# Altium footprint library 3M SMD.PcbLib: 4 footprints
Each footprint in its own frame and in the unit in brackets; x right, y up, seen from the top. Pads: shape width x height; smd on the part's side, far side on the other; paste and mask are expansions set on the pad; w line width, h text height; cw(c..) or ccw(c..) is an arc to the next point about the centre after c.
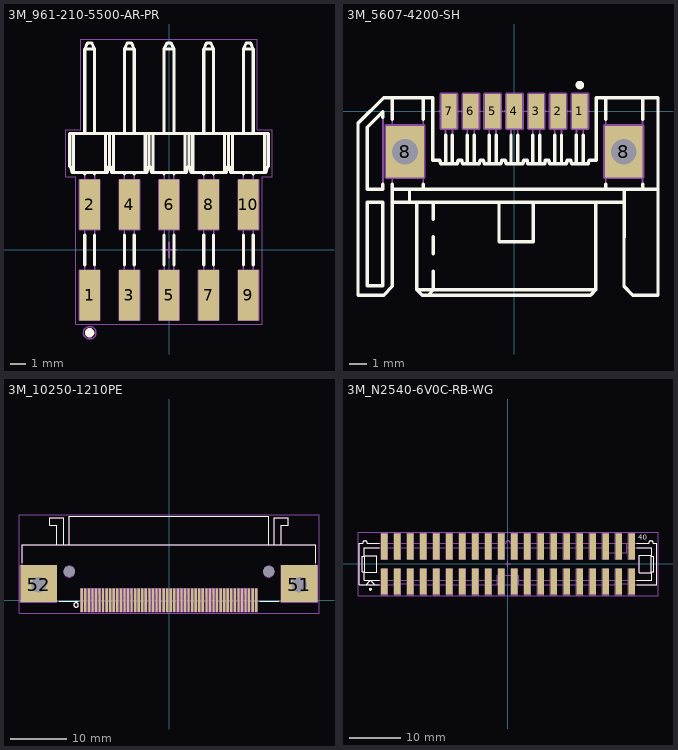
[diagram p0: the footprints below, top view; thin cyan lines are the x and y axes]

## 3M_961-210-5500-AR-PR [mm] "10 Contacts - 2.54 mm x 2.54 mm Right Angle, Surface Mount Pin Strip Header (Mating Pin Length 5.8mm)"
height 5
pads (10):
  rect 1.3x3.2 smd: 1(-5.08,-2.9) 2(-5.08,2.9) 3(-2.54,-2.9) 4(-2.54,2.9) 5(0,-2.9) 6(0,2.9) 7(2.54,-2.9) 8(2.54,2.9) 9(5.08,-2.9) 10(5.08,2.9)
Top Overlay:
  circle w0.3: c-5.08,-5.3 r0.15
  lines w0.2: -6.1,4.95 -6.1,7.45 ; -5.395,-0.95 -5.395,0.95 ; -5.395,4.85 -5.395,4.95 ; -5.395,7.45 -5.395,12.85 ; -4.765,-0.95 -4.765,0.95 ; -4.765,4.85 -4.765,4.95 ; -4.765,7.45 -4.765,12.85 ; -4.06,4.95 -4.06,7.45 ; -3.81,5.35 -3.81,7.45 ; -3.56,4.95 -3.56,7.45 ; -2.855,-0.95 -2.855,0.95 ; -2.855,4.85 -2.855,4.95 ; -2.855,7.45 -2.855,12.85 ; -2.225,-0.95 -2.225,0.95 ; -2.225,4.85 -2.225,4.95 ; -2.225,7.45 -2.225,12.85 ; -1.52,4.95 -1.52,7.45 ; -1.27,5.35 -1.27,7.45 ; -1.02,4.95 -1.02,7.45 ; -0.315,-0.95 -0.315,0.95 ; -0.315,4.85 -0.315,4.95 ; -0.315,7.45 -0.315,12.85 ; 0.315,-0.95 0.315,0.95 ; 0.315,4.85 0.315,4.95 ; 0.315,7.45 0.315,12.85 ; 1.02,4.95 1.02,7.45 ; 1.27,5.35 1.27,7.45 ; 1.52,4.95 1.52,7.45 ; 2.225,-0.95 2.225,0.95 ; 2.225,4.85 2.225,4.95 ; 2.225,7.45 2.225,12.85 ; 2.855,-0.95 2.855,0.95 ; 2.855,4.85 2.855,4.95 ; 2.855,7.45 2.855,12.85 ; 3.56,4.95 3.56,7.45 ; 3.81,5.35 3.81,7.45 ; 4.06,4.95 4.06,7.45 ; 4.765,-0.95 4.765,0.95 ; 4.765,4.85 4.765,4.95 ; 4.765,7.45 4.765,12.85 ; 5.395,-0.95 5.395,0.95 ; 5.395,4.85 5.395,4.95 ; 5.395,7.45 5.395,12.85 ; 6.1,4.95 6.1,7.45 ; -5.395,12.85 -5.215,13.25 -4.945,13.25 -4.765,12.85 ; -5.395,12.85 -4.765,12.85 ; -2.855,12.85 -2.675,13.25 -2.405,13.25 -2.225,12.85 ; -2.855,12.85 -2.225,12.85 ; -0.315,12.85 -0.135,13.25 0.135,13.25 0.315,12.85 ; -0.315,12.85 0.315,12.85 ; 2.225,12.85 2.405,13.25 2.675,13.25 2.855,12.85 ; 2.225,12.85 2.855,12.85 ; 4.765,12.85 4.945,13.25 5.215,13.25 5.395,12.85 ; 4.765,12.85 5.395,12.85 ; -6.35,5.35 -6.296,5.35 -6.207,4.95 -3.953,4.95 -3.864,5.35 -3.756,5.35 -3.667,4.95 -1.413,4.95 -1.324,5.35 -1.216,5.35 -1.127,4.95 1.127,4.95 1.216,5.35 1.324,5.35 1.413,4.95 3.667,4.95 3.756,5.35 3.864,5.35 3.953,4.95 6.207,4.95 6.296,5.35 6.35,5.35 6.35,7.45 -6.35,7.45 -6.35,5.35
Mechanical 8:
  lines w0.1: -5.58,-2.9 -5.08,-2.9 ; -5.58,2.9 -5.08,2.9 ; -5.08,-3.4 -5.08,-2.9 ; -5.08,-2.4 -5.08,-2.9 ; -5.08,2.4 -5.08,2.9 ; -5.08,3.4 -5.08,2.9 ; -4.58,-2.9 -5.08,-2.9 ; -4.58,2.9 -5.08,2.9 ; -3.04,-2.9 -2.54,-2.9 ; -3.04,2.9 -2.54,2.9 ; -2.54,-3.4 -2.54,-2.9 ; -2.54,-2.4 -2.54,-2.9 ; -2.54,2.4 -2.54,2.9 ; -2.54,3.4 -2.54,2.9 ; -2.04,-2.9 -2.54,-2.9 ; -2.04,2.9 -2.54,2.9 ; -0.5,-2.9 0,-2.9 ; -0.5,0 0,0 ; -0.5,2.9 0,2.9 ; 0,-3.4 0,-2.9 ; 0,-2.4 0,-2.9 ; 0,-0.5 0,0 ; 0,0.5 0,0 ; 0,2.4 0,2.9 ; 0,3.4 0,2.9 ; 0.5,-2.9 0,-2.9 ; 0.5,0 0,0 ; 0.5,2.9 0,2.9 ; 2.04,-2.9 2.54,-2.9 ; 2.04,2.9 2.54,2.9 ; 2.54,-3.4 2.54,-2.9 ; 2.54,-2.4 2.54,-2.9 ; 2.54,2.4 2.54,2.9 ; 2.54,3.4 2.54,2.9 ; 3.04,-2.9 2.54,-2.9 ; 3.04,2.9 2.54,2.9 ; 4.58,-2.9 5.08,-2.9 ; 4.58,2.9 5.08,2.9 ; 5.08,-3.4 5.08,-2.9 ; 5.08,-2.4 5.08,-2.9 ; 5.08,2.4 5.08,2.9 ; 5.08,3.4 5.08,2.9 ; 5.58,-2.9 5.08,-2.9 ; 5.58,2.9 5.08,2.9 ; -5.73,-4.5 -5.73,-1.3 -4.43,-1.3 -4.43,-4.5 -5.73,-4.5 ; -5.73,1.3 -4.43,1.3 -4.43,4.5 -5.73,4.5 -5.73,1.3 ; -3.19,-4.5 -3.19,-1.3 -1.89,-1.3 -1.89,-4.5 -3.19,-4.5 ; -3.19,1.3 -1.89,1.3 -1.89,4.5 -3.19,4.5 -3.19,1.3 ; -0.65,-4.5 -0.65,-1.3 0.65,-1.3 0.65,-4.5 -0.65,-4.5 ; -0.65,1.3 0.65,1.3 0.65,4.5 -0.65,4.5 -0.65,1.3 ; 1.89,-4.5 1.89,-1.3 3.19,-1.3 3.19,-4.5 1.89,-4.5 ; 1.89,1.3 3.19,1.3 3.19,4.5 1.89,4.5 1.89,1.3 ; 4.43,-4.5 4.43,-1.3 5.73,-1.3 5.73,-4.5 4.43,-4.5 ; 4.43,1.3 5.73,1.3 5.73,4.5 4.43,4.5 4.43,1.3
Mechanical 14:
  circle w0.1: c-5.08,-5.3 r0.4
  lines w0.1: -6.1,4.95 -6.1,7.45 ; -5.395,4.95 -5.395,-3.35 -5.265,-3.65 -4.895,-3.65 -4.765,-3.35 -4.765,4.95 ; -5.395,7.45 -5.395,12.85 ; -4.765,7.45 -4.765,12.85 ; -4.06,4.95 -4.06,7.45 ; -3.81,5.35 -3.81,7.45 ; -3.56,4.95 -3.56,7.45 ; -2.855,4.95 -2.855,-3.35 -2.725,-3.65 -2.355,-3.65 -2.225,-3.35 -2.225,4.95 ; -2.855,7.45 -2.855,12.85 ; -2.225,7.45 -2.225,12.85 ; -1.52,4.95 -1.52,7.45 ; -1.27,5.35 -1.27,7.45 ; -1.02,4.95 -1.02,7.45 ; -0.315,4.95 -0.315,-3.35 -0.185,-3.65 0.185,-3.65 0.315,-3.35 0.315,4.95 ; -0.315,7.45 -0.315,12.85 ; 0.315,7.45 0.315,12.85 ; 1.02,4.95 1.02,7.45 ; 1.27,5.35 1.27,7.45 ; 1.52,4.95 1.52,7.45 ; 2.225,4.95 2.225,-3.35 2.355,-3.65 2.725,-3.65 2.855,-3.35 2.855,4.95 ; 2.225,7.45 2.225,12.85 ; 2.855,7.45 2.855,12.85 ; 3.56,4.95 3.56,7.45 ; 3.81,5.35 3.81,7.45 ; 4.06,4.95 4.06,7.45 ; 4.765,4.95 4.765,-3.35 4.895,-3.65 5.265,-3.65 5.395,-3.35 5.395,4.95 ; 4.765,7.45 4.765,12.85 ; 5.395,7.45 5.395,12.85 ; 6.1,4.95 6.1,7.45 ; -5.395,12.85 -5.215,13.25 -4.945,13.25 -4.765,12.85 ; -5.395,12.85 -4.765,12.85 ; -2.855,12.85 -2.675,13.25 -2.405,13.25 -2.225,12.85 ; -2.855,12.85 -2.225,12.85 ; -0.315,12.85 -0.135,13.25 0.135,13.25 0.315,12.85 ; -0.315,12.85 0.315,12.85 ; 2.225,12.85 2.405,13.25 2.675,13.25 2.855,12.85 ; 2.225,12.85 2.855,12.85 ; 4.765,12.85 4.945,13.25 5.215,13.25 5.395,12.85 ; 4.765,12.85 5.395,12.85 ; -6.35,5.35 -6.296,5.35 -6.207,4.95 -3.953,4.95 -3.864,5.35 -3.756,5.35 -3.667,4.95 -1.413,4.95 -1.324,5.35 -1.216,5.35 -1.127,4.95 1.127,4.95 1.216,5.35 1.324,5.35 1.413,4.95 3.667,4.95 3.756,5.35 3.864,5.35 3.953,4.95 6.207,4.95 6.296,5.35 6.35,5.35 6.35,7.45 -6.35,7.45 -6.35,5.35
Mechanical 15:
  lines w0.05: -6.6,4.7 -5.98,4.7 -5.98,-4.75 5.98,-4.75 5.98,4.7 6.6,4.7 6.6,7.7 5.645,7.7 5.645,13.5 -5.645,13.5 -5.645,7.7 -6.6,7.7 -6.6,4.7
3D body "3M_961-210-5500-AR-PR.stp": height 5.01, standoff -0.01, extent -6.35,-3.65 6.35,13.25

## 3M_5607-4200-SH [mm] "1.27mm (.050\") Pitch, Surface Mount, Right Angle, Serial ATA Plug (SATA)"
height 4
pads (9):
  rect 0.9x2 smd: 1(3.81,0) 2(2.54,0) 3(1.27,0) 4(0,0) 5(-1.27,0) 6(-2.54,0) 7(-3.81,0)
  rect 2.2x3 hole 1.5: 8(-6.37,-2.36) 8(6.37,-2.36)
Top Overlay:
  circle w0.25: c3.81,1.516 r0.125
  lines w0.2: -7.66,-4.25 -7.66,-4.559 -8.56,-4.559 -8.56,-0.937 -7.66,-0.037 -7.66,-0.346 ; -7.11,-5.309 6.38,-5.309 ; -7.11,-4.559 8.36,-4.559 ; -7.11,-4.26 -7.11,-10.209 -7.61,-10.709 -9.11,-10.709 -9.11,-0.709 -7.61,0.791 -4.76,0.791 -4.76,-2.859 -4.345,-2.859 -4.296,-3.059 -3.324,-3.059 -3.275,-2.859 -3.075,-2.859 -3.026,-3.059 -2.054,-3.059 -2.005,-2.859 -1.805,-2.859 -1.756,-3.059 -0.784,-3.059 -0.735,-2.859 -0.535,-2.859 -0.486,-3.059 0.486,-3.059 0.535,-2.859 0.735,-2.859 0.784,-3.059 1.756,-3.059 1.805,-2.859 2.005,-2.859 2.054,-3.059 3.026,-3.059 3.075,-2.859 3.275,-2.859 3.324,-3.059 4.296,-3.059 4.345,-2.859 4.76,-2.859 4.76,0.791 8.36,0.791 8.36,-10.709 6.88,-10.709 6.38,-10.209 6.382,-4.569 ; -7.11,-0.46 -7.11,0.791 ; -6.11,-5.309 -6.11,-4.559 ; -5.68,-5.309 -5.68,-10.409 ; -5.31,-4.559 -5.31,-4.26 ; -5.31,-0.46 -5.31,0.791 ; -5.019,-10.709 -4.719,-10.409 -4.719,-9.309 ; -4.719,-8.309 -4.719,-7.309 ; -4.719,-6.309 -4.719,-5.309 ; -4.01,-3.059 -4.01,-1.4 ; -3.61,-3.059 -3.61,-1.4 ; -2.74,-3.059 -2.74,-1.4 ; -2.34,-3.059 -2.34,-1.4 ; -1.47,-3.059 -1.47,-1.4 ; -1.07,-3.059 -1.07,-1.4 ; -0.9,-5.309 -0.9,-7.609 1.1,-7.609 1.1,-5.309 ; -0.2,-3.059 -0.2,-1.4 ; 0.2,-3.059 0.2,-1.4 ; 1.07,-3.059 1.07,-1.4 ; 1.47,-3.059 1.47,-1.4 ; 2.34,-3.059 2.34,-1.4 ; 2.74,-3.059 2.74,-1.4 ; 3.61,-3.059 3.61,-1.4 ; 4.01,-3.059 4.01,-1.4 ; 4.73,-5.309 4.73,-10.409 ; 5.31,-4.559 5.31,-4.26 ; 5.31,-0.46 5.31,0.791 ; 7.46,-4.559 7.46,-4.26 ; 7.46,-0.46 7.46,0.791 ; -5.68,-10.409 4.73,-10.409 ; -5.68,-10.409 -5.38,-10.709 4.43,-10.709 4.73,-10.409 ; -8.56,-10.159 -8.56,-5.309 -7.66,-5.309 -7.66,-10.159 -8.56,-10.159
Mechanical 8:
  circle w0.1: c6.37,-2.36 r0.75
  circle w0.1: c-6.37,-2.36 r0.75
  lines w0.2: -6.87,-2.36 -6.37,-2.36 ; -6.37,-2.86 -6.37,-2.36 ; -6.37,-1.86 -6.37,-2.36 ; -5.87,-2.36 -6.37,-2.36 ; -4.31,0 -3.81,0 ; -3.81,-0.5 -3.81,0 ; -3.81,0.5 -3.81,0 ; -3.31,0 -3.81,0 ; -3.04,0 -2.54,0 ; -2.54,-0.5 -2.54,0 ; -2.54,0.5 -2.54,0 ; -2.04,0 -2.54,0 ; -1.77,0 -1.27,0 ; -1.27,-0.5 -1.27,0 ; -1.27,0.5 -1.27,0 ; -0.77,0 -1.27,0 ; -0.5,0 0,0 ; 0,-0.5 0,0 ; 0,0.5 0,0 ; 0.5,0 0,0 ; 0.77,0 1.27,0 ; 1.27,-0.5 1.27,0 ; 1.27,0.5 1.27,0 ; 1.77,0 1.27,0 ; 2.04,0 2.54,0 ; 2.54,-0.5 2.54,0 ; 2.54,0.5 2.54,0 ; 3.04,0 2.54,0 ; 3.31,0 3.81,0 ; 3.81,-0.5 3.81,0 ; 3.81,0.5 3.81,0 ; 4.31,0 3.81,0 ; 5.87,-2.36 6.37,-2.36 ; 6.37,-2.86 6.37,-2.36 ; 6.37,-1.86 6.37,-2.36 ; 6.87,-2.36 6.37,-2.36 ; -7.47,-3.86 -5.27,-3.86 -5.27,-0.86 -7.47,-0.86 -7.47,-3.86 ; -4.26,-1 -3.36,-1 -3.36,1 -4.26,1 -4.26,-1 ; -2.99,-1 -2.09,-1 -2.09,1 -2.99,1 -2.99,-1 ; -1.72,-1 -0.82,-1 -0.82,1 -1.72,1 -1.72,-1 ; -0.45,-1 0.45,-1 0.45,1 -0.45,1 -0.45,-1 ; 0.82,-1 1.72,-1 1.72,1 0.82,1 0.82,-1 ; 2.09,-1 2.99,-1 2.99,1 2.09,1 2.09,-1 ; 3.36,-1 4.26,-1 4.26,1 3.36,1 3.36,-1 ; 5.27,-3.86 7.47,-3.86 7.47,-0.86 5.27,-0.86 5.27,-3.86
Mechanical 14:
  lines w0.1: -7.11,-5.309 6.38,-5.309 ; -7.11,-4.559 8.36,-4.559 ; -7.11,0.791 -7.11,-10.209 -7.61,-10.709 -9.11,-10.709 -9.11,-0.709 -7.61,0.791 -4.76,0.791 -4.76,-2.859 -4.345,-2.859 -4.296,-3.059 -3.324,-3.059 -3.275,-2.859 -3.075,-2.859 -3.026,-3.059 -2.054,-3.059 -2.005,-2.859 -1.805,-2.859 -1.756,-3.059 -0.784,-3.059 -0.735,-2.859 -0.535,-2.859 -0.486,-3.059 0.486,-3.059 0.535,-2.859 0.735,-2.859 0.784,-3.059 1.756,-3.059 1.805,-2.859 2.005,-2.859 2.054,-3.059 3.026,-3.059 3.075,-2.859 3.275,-2.859 3.324,-3.059 4.296,-3.059 4.345,-2.859 4.76,-2.859 4.76,0.791 8.36,0.791 8.36,-10.709 6.88,-10.709 6.38,-10.209 6.382,-4.569 ; -6.11,-5.309 -6.11,-4.559 ; -5.68,-5.309 -5.68,-10.409 ; -5.31,-4.559 -5.31,0.791 ; -5.019,-10.709 -4.719,-10.409 -4.719,-9.309 ; -4.719,-8.309 -4.719,-7.309 ; -4.719,-6.309 -4.719,-5.309 ; -4.01,-3.059 -4.01,0.591 -3.61,0.591 -3.61,-3.059 ; -2.74,-3.059 -2.74,0.591 -2.34,0.591 -2.34,-3.059 ; -1.47,-3.059 -1.47,0.591 -1.07,0.591 -1.07,-3.059 ; -0.9,-5.309 -0.9,-7.609 1.1,-7.609 1.1,-5.309 ; -0.2,-3.059 -0.2,0.591 0.2,0.591 0.2,-3.059 ; 1.07,-3.059 1.07,0.591 1.47,0.591 1.47,-3.059 ; 2.34,-3.059 2.34,0.591 2.74,0.591 2.74,-3.059 ; 3.61,-3.059 3.61,0.591 4.01,0.591 4.01,-3.059 ; 4.73,-5.309 4.73,-10.409 ; 5.31,-4.559 5.31,0.791 ; 7.46,-4.559 7.46,0.791 ; -5.68,-10.409 4.73,-10.409 ; -5.68,-10.409 -5.38,-10.709 4.43,-10.709 4.73,-10.409 ; -8.56,-10.159 -8.56,-5.309 -7.66,-5.309 -7.66,-10.159 -8.56,-10.159 ; -8.56,-4.559 -8.56,-0.937 -7.66,-0.037 -7.66,-4.559 -8.56,-4.559 ; -6.52,-3.535 -6.52,-1.177 -6.22,-1.177 -6.22,-3.535 -6.52,-3.535 ; 6.22,-3.535 6.22,-1.177 6.52,-1.177 6.52,-3.535 6.22,-3.535
3D body "3M_5607-4200-SH.stp": height 4, standoff -2.7, extent -9.11,-10.709 8.36,0.791

## 3M_10250-1210PE [mm] "40 Contacts - .050\" Surface Mount Right Angle Mini D Ribbon (MDR) Receptacle - Shielded"
height 9.35
pads (54):
  rect 0.4x4.2 smd: 1(-15.558,0) 2(-14.288,0) 3(-13.018,0) 4(-11.748,0) 5(-10.478,0) 6(-9.208,0) 7(-7.938,0) 8(-6.668,0) 9(-5.398,0) 10(-4.128,0) 11(-2.858,0) 12(-1.588,0) 13(-0.318,0) 14(0.952,0) 15(2.222,0) 16(3.492,0) 17(4.762,0) 18(6.032,0) 19(7.302,0) 20(8.572,0) 21(9.842,0) 22(11.112,0) 23(12.382,0) 24(13.652,0) 25(14.922,0) 26(-14.923,0) 27(-13.653,0) 28(-12.383,0) 29(-11.113,0) 30(-9.843,0) 31(-8.573,0) 32(-7.303,0) 33(-6.033,0) 34(-4.763,0) 35(-3.493,0) 36(-2.223,0) 37(-0.953,0) 38(0.317,0) 39(1.587,0) 40(2.857,0) 41(4.127,0) 42(5.397,0) 43(6.667,0) 44(7.937,0) 45(9.207,0) 46(10.477,0) 47(11.747,0) 48(13.017,0) 49(14.287,0) 50(15.557,0)
  rect 6.5x6.6 hole 2.8 copper offset 0,0.2: 51(23.25,2.74) 52(-23.25,2.74)
  round 1 hole 2 unplated mask+0.5: 53(-17.78,5.1) 54(17.78,5.1)
Top Overlay:
  circle w0.2: c-16.558,-0.856 r0.4
  lines w0.2: -26.162,6.64 -26.162,9.852 26.162,9.852 26.162,6.64 ; -20.019,9.852 -20.019,13.408 -21.289,13.408 -21.289,14.678 -18.749,14.678 -18.749,9.852 ; -19.6,-0.156 -16.158,-0.156 ; -17.784,9.852 -17.784,15.008 17.785,15.008 17.785,9.852 ; 16.158,-0.156 19.6,-0.156 ; 18.75,9.852 18.75,14.678 21.29,14.678 21.29,13.408 20.02,13.408 20.02,9.852
Mechanical 8:
  drawing of 338 lines, arcs and shapes, not listed
Mechanical 14:
  circle w0.1: c-16.558,-0.856 r0.4
  circle w0.1: c23.254,2.74 r1.245
  circle w0.1: c-23.254,2.74 r1.245
  lines w0.1: -26.162,5.102 -20.32,5.102 -20.32,-0.156 ; -20.019,9.852 -20.019,13.408 -21.289,13.408 -21.289,14.678 -18.749,14.678 -18.749,9.852 ; -17.784,9.852 -17.784,15.008 17.785,15.008 17.785,9.852 ; 18.75,9.852 18.75,14.678 21.29,14.678 21.29,13.408 20.02,13.408 20.02,9.852 ; 20.32,-0.156 20.32,5.102 26.162,5.102 ; -26.162,-0.156 26.162,-0.156 26.162,9.852 -26.162,9.852 -26.162,-0.156
Mechanical 15:
  lines w0.05: -26.75,-2.35 26.75,-2.35 26.75,15.258 -26.75,15.258 -26.75,-2.35
3D body "3M_10250-1210PE.stp": height 9.35, standoff -0.99, extent -26.162,-0.155 26.162,15.008

## 3M_N2540-6V0C-RB-WG [mm] "40 Contacts - Straight SMD .100\" x .100\" Low Profile Four-Wall Header"
height 10.16
pads (40):
  rect 1.27x5.08 smd: 1(-24.13,-3.43) 2(-24.13,3.43) 3(-21.59,-3.43) 4(-21.59,3.43) 5(-19.05,-3.43) 6(-19.05,3.43) 7(-16.51,-3.43) 8(-16.51,3.43) 9(-13.97,-3.43) 10(-13.97,3.43) 11(-11.43,-3.43) 12(-11.43,3.43) 13(-8.89,-3.43) 14(-8.89,3.43) 15(-6.35,-3.43) 16(-6.35,3.43) 17(-3.81,-3.43) 18(-3.81,3.43) 19(-1.27,-3.43) 20(-1.27,3.43) 21(1.27,-3.43) 22(1.27,3.43) 23(3.81,-3.43) 24(3.81,3.43) 25(6.35,-3.43) 26(6.35,3.43) 27(8.89,-3.43) 28(8.89,3.43) 29(11.43,-3.43) 30(11.43,3.43) 31(13.97,-3.43) 32(13.97,3.43) 33(16.51,-3.43) 34(16.51,3.43) 35(19.05,-3.43) 36(19.05,3.43) 37(21.59,-3.43) 38(21.59,3.43) 39(24.13,-3.43) 40(24.13,3.43)
Top Overlay:
  circle w0.3: c-26.88,-4.949 r0.15
  lines w0.2: -28.042,-1.599 -25.629,-1.599 -25.629,1.599 -28.042,1.599 ; -27.94,-1.629 -27.94,1.629 ; -27.744,-4.064 -26.88,-3.2 -26.016,-4.064 ; -25.165,-4.064 -29.058,-4.064 -29.058,4.064 -28.397,4.064 cw(c-27.94,4.064) -27.483,4.064 -25.165,4.064 ; -25.165,-3.175 -28.042,-3.175 -28.042,-1.475 -28.448,-1.475 -28.448,1.475 -28.042,1.475 -28.042,3.175 -25.165,3.175 ; 25.165,-4.064 29.058,-4.064 29.058,4.064 28.397,4.064 ccw(c27.94,4.064) 27.483,4.064 25.165,4.064 ; 25.165,-3.175 28.042,-3.175 28.042,-1.524 28.448,-1.524 28.448,1.524 28.042,1.524 28.042,3.175 25.165,3.175 ; 27.94,-1.645 28.042,-1.631 ; 27.94,1.645 28.042,1.631 ; 25.629,-1.664 27.94,-1.664 27.94,1.664 25.629,1.664 25.629,-1.664
  text "40" at 25.453,4.767 h1.02
Mechanical 8:
  drawing of 324 lines, arcs and shapes, not listed
Mechanical 14:
  lines w0.1: -28.042,-1.599 -25.629,-1.599 -25.629,1.599 -28.042,1.599 ; -27.94,-1.629 -27.94,1.629 ; -27.744,-4.064 -26.88,-3.2 -26.016,-4.064 ; -3.365,-4.064 -3.365,-3.175 ; -2.095,-4.064 -2.095,-2.159 2.096,-2.159 2.096,-4.064 ; -2.095,-3.175 -28.042,-3.175 -28.042,-1.475 -28.448,-1.475 -28.448,1.475 -28.042,1.475 -28.042,3.175 18.979,3.175 18.987,3.175 ; -1.46,-4.064 -1.46,-2.159 ; 1.461,-4.064 1.461,-2.159 ; 2.096,-3.175 28.042,-3.175 28.042,-1.524 28.448,-1.524 28.448,1.524 28.042,1.524 28.042,3.175 23.178,3.175 ; 3.366,-4.064 3.366,-3.175 ; 18.987,4.064 18.987,2.159 23.178,2.159 23.178,4.064 ; 19.622,2.159 19.622,4.064 ; 24.448,3.175 24.448,4.064 ; 27.94,-1.645 28.042,-1.631 ; 27.94,1.645 28.042,1.631 ; -29.058,-4.064 -29.058,4.064 -28.397,4.064 cw(c-27.94,4.064) -27.483,4.064 -14.427,4.064 cw(c-13.97,4.064) -13.513,4.064 -0.457,4.064 cw(c0,4.064) 0.457,4.064 13.513,4.064 cw(c13.97,4.064) 14.427,4.064 27.483,4.064 cw(c27.94,4.064) 28.397,4.064 29.058,4.064 29.058,-4.064 24.892,-4.064 24.892,-3.81 20.828,-3.81 20.828,-4.064 -18.288,-4.064 -18.288,-3.81 -22.352,-3.81 -22.352,-4.064 -29.058,-4.064 ; 25.629,-1.664 27.94,-1.664 27.94,1.664 25.629,1.664 25.629,-1.664
  text "40" at 25.453,4.767 h1.02
Mechanical 15:
  lines w0.05: -29.308,-6.22 29.308,-6.22 29.308,6.22 -29.308,6.22 -29.308,-6.22
3D body "3M_N2540-6V0C-RB-WG.stp": height 10.16, standoff 0, extent -29.057,-5.588 29.058,5.588